# Altium schematic symbol library J 晶振.SCHLIB: 4 symbols
Pins are listed as number, name and electrical type; pins without a type are passive.

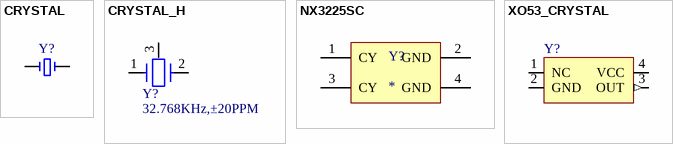
[diagram p0: symbols CRYSTAL to XO53_CRYSTAL]

## CRYSTAL
designator Y?
晶振
pins: 1, 2

## CRYSTAL_H
designator Y?, comment 32.768KHz,±20PPM
Crystal; 物料代码: 1.07.02.0002; 名称: 晶体; 规格型号: 32.768KHz,±20PPM,12.5PF,Ф2×6mm,RoHS; 设备封装名称: 32.768KHz,±20PPM,12.5PF,Ф2×6mm; 贴片和直插: THT; ComponentLink1Description: ErpDataInfo; ComponentLink1URL: http://erp.zlgmcu.com/ErpExt/ErpData/ListMateriel.aspx?pkey=1.07.02.0002; RoHS: RoHS; 型号: 32.768KHz,±20PPM,12.5PF,Ф2×6mm; Value: 32.768KHz,±20PPM
footprint CRY0.1_H
pins: 1, 2, 3 G
2 alternate drawings of the same symbol

## NX3225SC
designator Y?
pins: 1 CY, 2 GND, 3 CY, 4 GND

## XO53_CRYSTAL
designator Y?
晶振
pins: 1 NC, 2 GND (power), 3 OUT (out), 4 VCC (power)